# Altium footprint library Conn_Molex_22-23-2061_eec_0.PcbLib: 1 footprints
Each footprint in its own frame and in the unit in brackets; x right, y up, seen from the top. Pads: shape width x height; smd on the part's side, far side on the other; paste and mask are expansions set on the pad; w line width, h text height; cw(c..) or ccw(c..) is an arc to the next point about the centre after c.
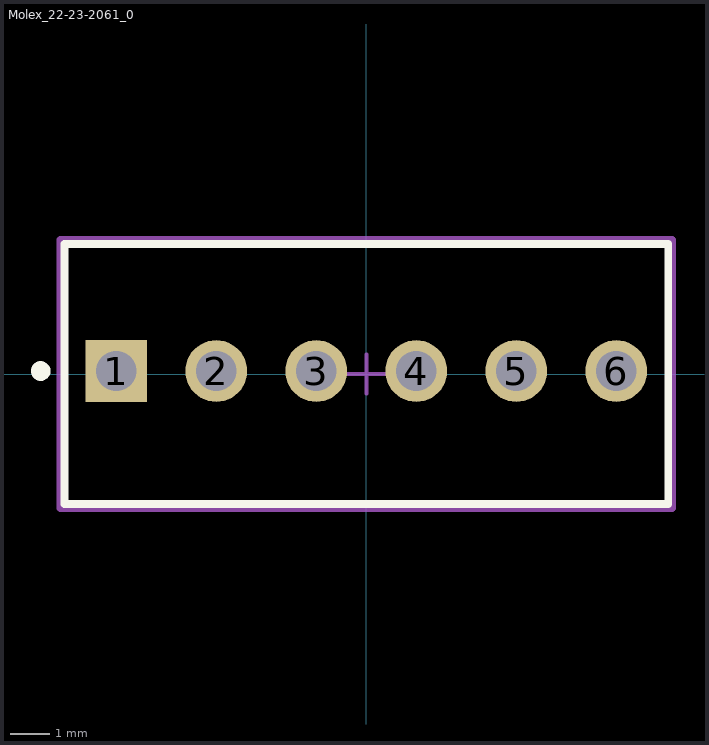
[diagram p0: the footprint, top view; thin cyan lines are the x and y axes]

## Molex_22-23-2061_0 [mm]
pads (6):
  rect 1.57x1.57 hole 1.02 paste-1000 mask+0: 1(-6.35,0.075)
  round 1.57 hole 1.02 paste-1000 mask+0: 2(-3.81,0.075) 3(-1.27,0.075) 4(1.27,0.075) 5(3.81,0.075) 6(6.35,0.075)
Top Overlay:
  circle w0.25: c-8.27,0.075 r0.125
  lines w0.2: -7.67,-3.3 7.67,-3.3 7.67,3.3 -7.67,3.3 -7.67,-3.3
Mechanical 10:
  lines w0.2: -7.77,-3.4 7.77,-3.4 7.77,3.4 -7.77,3.4 -7.77,-3.4
  text ".Designator" at 0,0 h1
Mechanical 12:
  lines w0.15: -7.67,-3.3 7.67,-3.3 7.67,3.3 -7.67,3.3 -7.67,-3.3
Mechanical 15:
  lines w0.1: -0.5,0 0.5,0 ; 0,-0.5 0,0.5
  lines w0.2: -7.77,-3.4 7.77,-3.4 7.77,3.4 -7.77,3.4 -7.77,-3.4
3D body "Conn_Molex_22-23-2061_eec.STEP": height 0.25, standoff 0, extent -7.77,-3.4 7.77,3.4